# Altium footprint library ertc_footprints.PcbLib: 14 footprints
Each footprint in its own frame and in the unit in brackets; x right, y up, seen from the top. Pads: shape width x height; smd on the part's side, far side on the other; paste and mask are expansions set on the pad; w line width, h text height; cw(c..) or ccw(c..) is an arc to the next point about the centre after c.
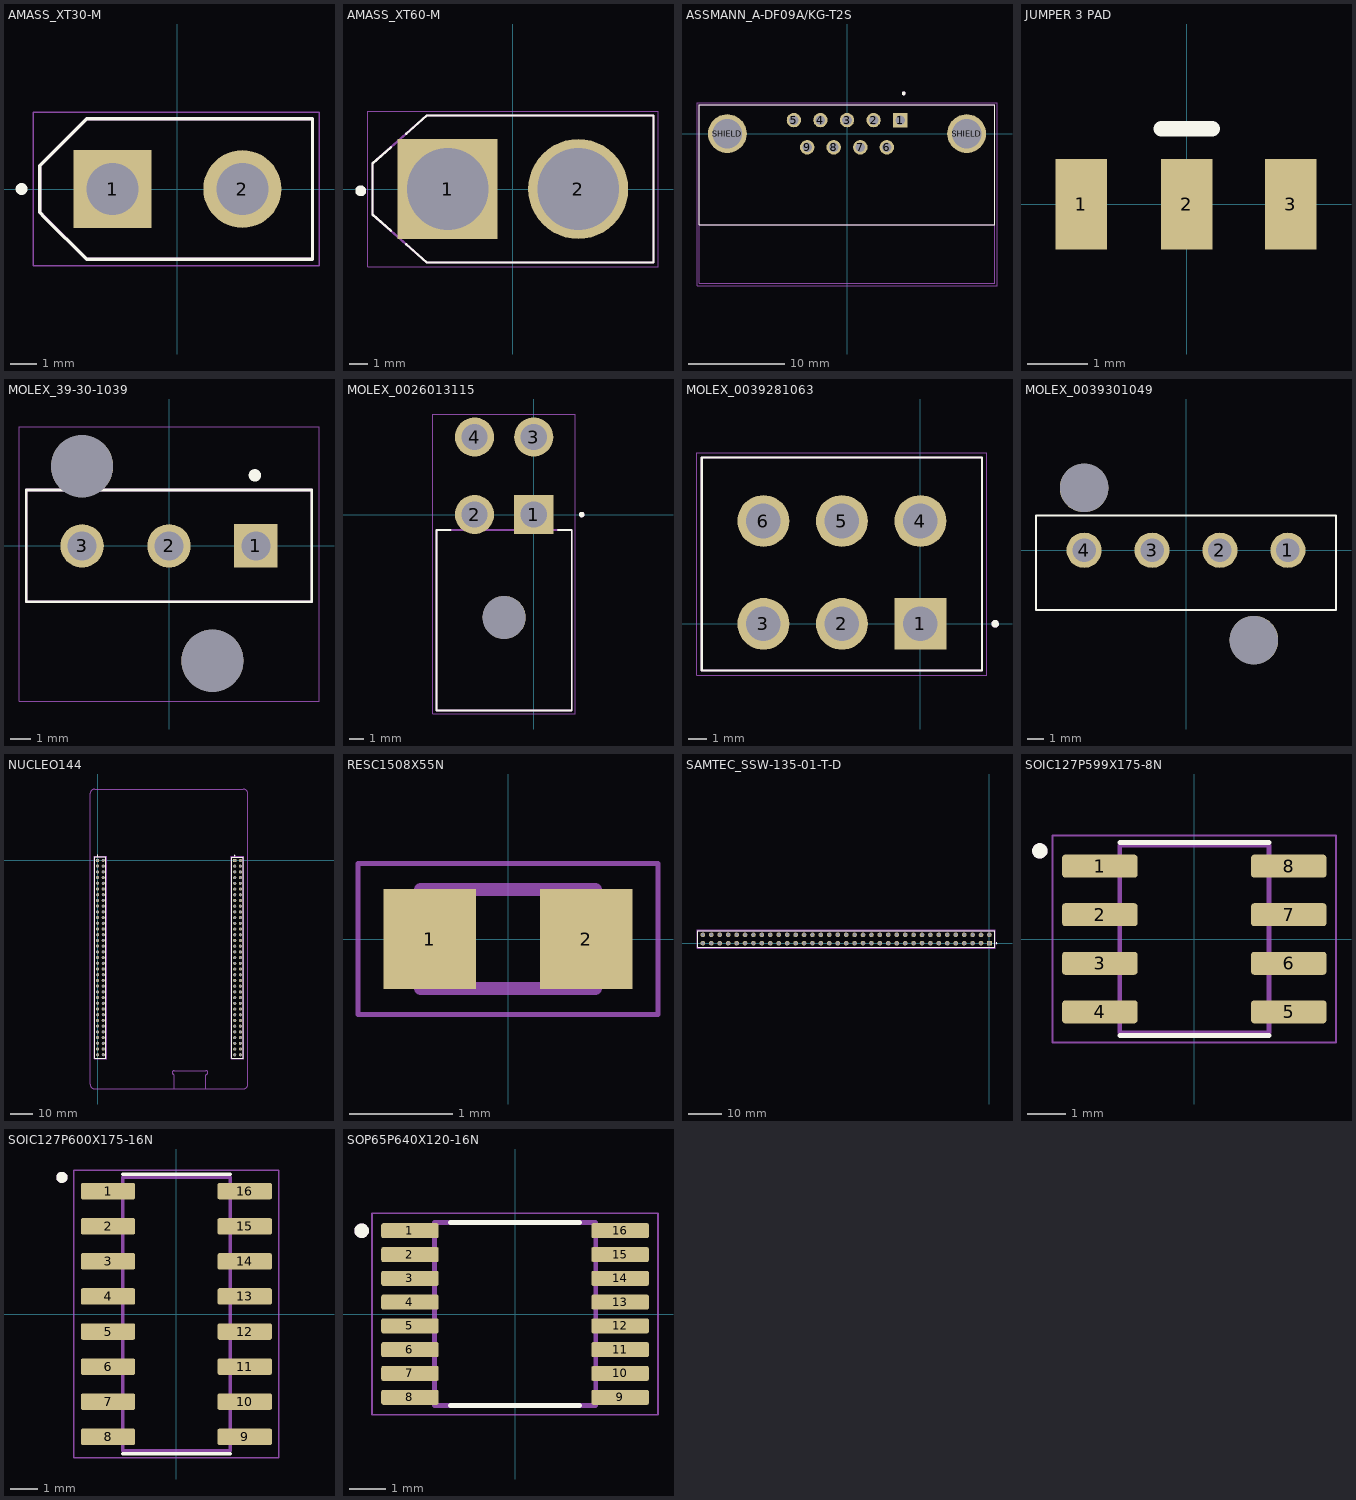
[diagram p0: the footprints below, top view; thin cyan lines are the x and y axes]

## AMASS_XT30-M [mm]
pads (2):
  rect 3x3 hole 2: 1(-2.5,0)
  round 3 hole 2: 2(2.5,0)
Top Overlay:
  circle w0.254: c-6,0 r0.1
  lines w0.127: -5.3,-0.9 -5.3,0.9 -3.5,2.7 5.2,2.7 5.2,-2.7 -3.5,-2.7 -5.1,-1.1 -5.3,-0.9
Mechanical 13:
  lines w0.127: -5.3,-0.9 -5.3,0.9 -3.5,2.7 5.2,2.7 5.2,-2.7 -3.5,-2.7 -5.3,-0.9
Mechanical 15:
  lines w0.05: -5.55,-2.95 -5.55,2.95 5.45,2.95 5.45,-2.95 -5.55,-2.95

## AMASS_XT60-M [mm]
pads (2):
  rect 5.516x5.516 hole 4.5: 1(-3.6,0)
  round 5.516 hole 4.5: 2(3.6,0)
Top Overlay:
  circle w0.3: c-8.4,-0.1 r0.15
  lines w0.127: -6.73,-2.3 -7.75,-1.4 -7.75,1.4 -6.73,2.3 ; -5.88,-3.05 -4.75,-4.05 7.75,-4.05 7.75,4.05 -4.75,4.05 -5.88,3.05
Mechanical 13:
  lines w0.127: -7.75,-1.4 -4.75,-4.05 7.75,-4.05 7.75,4.05 -4.75,4.05 -7.75,1.4 -7.75,-1.4
Mechanical 15:
  lines w0.05: -8,-4.3 8,-4.3 8,4.3 -8,4.3 -8,-4.3

## ASSMANN_A-DF09A/KG-T2S [mm]
pads (11):
  rect 1.508x1.508 hole 1: 1(5.54,1.42)
  round 1.508 hole 1: 2(2.77,1.42) 3(0,1.42) 4(-2.77,1.42) 5(-5.54,1.42) 6(4.155,-1.42) 7(1.385,-1.42) 8(-1.385,-1.42) 9(-4.155,-1.42)
  round 4.066 hole 3.05: SHIELD(-12.495,0) SHIELD(12.495,0)
Top Overlay:
  circle w0.2: c5.92,4.2 r0.1
  lines w0.127: -15.405,-9.5 15.405,-9.5 15.405,3 -15.405,3 -15.405,-9.5
Mechanical 13:
  circle w0.2: c5.92,4.2 r0.1
  lines w0.127: -15.405,-9.5 15.405,-9.5 ; -15.405,-15.6 15.405,-15.6 15.405,3 -15.405,3 -15.405,-15.6
Mechanical 15:
  lines w0.05: -15.655,-15.85 15.655,-15.85 15.655,3.25 -15.655,3.25 -15.655,-15.85
3D body "step_temp.STEP": height 12.55, standoff -4.33, extent -15.405,-15.32 15.405,2.98

## JUMPER 3 PAD [mm]
pads (3):
  rect 0.85x1.5 smd: 1(-1.75,0) 2(0,0) 3(1.725,0)
Top Overlay:
  lines w0.254: -0.425,1.25 0.425,1.25

## MOLEX_39-30-1039 [mm]
pads (5):
  rect 2.1x2.1 hole 1.4: 1(4.2,0)
  round 2.1 hole 1.4: 2(0,0) 3(-4.2,0)
  round 3 hole 3 unplated: ""(-4.2,3.85) ""(2.1,-5.55)
Top Overlay:
  circle w0.3: c4.15,3.41 r0.15
  lines w0.127: -6.9,-2.7 6.9,-2.7 6.9,2.7 -6.9,2.7 -6.9,-2.7
Mechanical 13:
  lines w0.127: -6.9,-2.7 6.9,-2.7 6.9,2.7 -6.9,2.7 -6.9,-2.7
Mechanical 15:
  lines w0.05: -7.25,-7.5 7.25,-7.5 7.25,5.75 -7.25,5.75 -7.25,-7.5
3D body "39-30-1039.stp": height 12.45, standoff -3.5, extent -6.9,-6.631 6.9,4.928

## MOLEX_0026013115 [mm]
pads (5):
  rect 2.775x2.775 hole 1.85: 1(0,0)
  round 2.775 hole 1.85: 2(-4.2,0) 3(0,5.5) 4(-4.2,5.5)
  round 3.05 hole 3.05 unplated: ""(-2.1,-7.3)
Top Overlay:
  circle w0.2: c3.4,0 r0.1
  lines w0.127: -5.91,-1.1 -6.9,-1.1 -6.9,-13.9 2.7,-13.9 2.7,-1.1 1.71,-1.1
Mechanical 13:
  circle w0.2: c3.4,0 r0.1
  lines w0.127: -6.9,-13.9 -6.9,-1.1 2.7,-1.1 2.7,-13.9 -6.9,-13.9
Mechanical 15:
  lines w0.05: -7.15,-14.15 -7.15,7.14 2.95,7.14 2.95,-14.15 -7.15,-14.15
3D body "0026013115--3DModel-STEP-56544.STEP": height 11.4, standoff -4.36, extent -7.108,-13.894 2.892,6.041

## MOLEX_0039281063 [mm]
pads (6):
  rect 2.775x2.775 hole 1.85: 1(0,0)
  round 2.775 hole 1.85: 2(-4.2,0) 3(-8.4,0) 4(0,5.5) 5(-4.2,5.5) 6(-8.4,5.5)
Top Overlay:
  lines w0.127: -11.7,-2.5 -11.7,8.9 3.3,8.9 3.3,-2.5 -11.7,-2.5
  lines w0.2: 4.089,0.045 ccw(c4,0) 4.1,0
Mechanical 13:
  circle w0.2: c4,0 r0.1
  lines w0.127: -11.7,-2.5 3.3,-2.5 3.3,8.9 -11.7,8.9 -11.7,-2.5
Mechanical 15:
  lines w0.05: -11.95,-2.75 -11.95,9.15 3.55,9.15 3.55,-2.75 -11.95,-2.75
3D body "39281063--3DModel-STEP-390490.STEP": height 12.8, standoff -3.5, extent -11.5,-2.3 3.1,8.7

## MOLEX_0039301049 [mm]
pads (6):
  round 2.175 hole 1.45: 1(6.3,0) 2(2.1,0) 3(-2.1,0) 4(-6.3,0)
  round 3 hole 3 unplated: ""(-6.3,3.85) ""(4.2,-5.55)
Top Overlay:
  lines w0.127: -9.271,-3.683 9.271,-3.683 9.271,2.159 -9.271,2.159 -9.271,-3.683
3D body "39-30-1049.stp": height 12.8, standoff -3.5, extent -9,-6.618 9,4.941

## NUCLEO144 [mm] "Female Headers on PCB, Male Headers on Nucleo"
pads (140):
  rect 1.39x1.39 / inner round 1.39 / far side rect 1.39x1.39 hole 1.04: 01(0,0) 01(60.96,-0.025)
  round 1.39 hole 1.04: 02(2.54,0) 02(63.5,-0.025) 03(0,-2.54) 03(60.96,-2.565) 04(2.54,-2.54) 04(63.5,-2.565) 05(0,-5.08) 05(60.96,-5.105) 06(2.54,-5.08) 06(63.5,-5.105) 07(0,-7.62) 07(60.96,-7.645) 08(2.54,-7.62) 08(63.5,-7.645) 09(0,-10.16) 09(60.96,-10.185) 10(2.54,-10.16) 10(63.5,-10.185) 11(0,-12.7) 11(60.96,-12.725) 12(2.54,-12.7) 12(63.5,-12.725) 13(0,-15.24) 13(60.96,-15.265) 14(2.54,-15.24) 14(63.5,-15.265) 15(0,-17.78) 15(60.96,-17.805) 16(2.54,-17.78) 16(63.5,-17.805) 17(0,-20.32) 17(60.96,-20.345) 18(2.54,-20.32) 18(63.5,-20.345) 19(0,-22.86) 19(60.96,-22.885) 20(2.54,-22.86) 20(63.5,-22.885) 21(0,-25.4) 21(60.96,-25.425) 22(2.54,-25.4) 22(63.5,-25.425) 23(0,-27.94) 23(60.96,-27.965) 24(2.54,-27.94) 24(63.5,-27.965) 25(0,-30.48) 25(60.96,-30.505) 26(2.54,-30.48) 26(63.5,-30.505) 27(0,-33.02) 27(60.96,-33.045) 28(2.54,-33.02) 28(63.5,-33.045) 29(0,-35.56) 29(60.96,-35.585) 30(2.54,-35.56) 30(63.5,-35.585) 31(0,-38.1) 31(60.96,-38.125) 32(2.54,-38.1) 32(63.5,-38.125) 33(0,-40.64) 33(60.96,-40.665) 34(2.54,-40.64) 34(63.5,-40.665) 35(0,-43.18) 35(60.96,-43.205) 36(2.54,-43.18) 36(63.5,-43.205) 37(0,-45.72) 37(60.96,-45.745) 38(2.54,-45.72) 38(63.5,-45.745) 39(0,-48.26) 39(60.96,-48.285) 40(2.54,-48.26) 40(63.5,-48.285) 41(0,-50.8) 41(60.96,-50.825) 42(2.54,-50.8) 42(63.5,-50.825) 43(0,-53.34) 43(60.96,-53.365) 44(2.54,-53.34) 44(63.5,-53.365) 45(0,-55.88) 45(60.96,-55.905) 46(2.54,-55.88) 46(63.5,-55.905) 47(0,-58.42) 47(60.96,-58.445) 48(2.54,-58.42) 48(63.5,-58.445) 49(0,-60.96) 49(60.96,-60.985) 50(2.54,-60.96) 50(63.5,-60.985) 51(0,-63.5) 51(60.96,-63.525) 52(2.54,-63.5) 52(63.5,-63.525) 53(0,-66.04) 53(60.96,-66.065) 54(2.54,-66.04) 54(63.5,-66.065) 55(0,-68.58) 55(60.96,-68.605) 56(2.54,-68.58) 56(63.5,-68.605) 57(0,-71.12) 57(60.96,-71.145) 58(2.54,-71.12) 58(63.5,-71.145) 59(0,-73.66) 59(60.96,-73.685) 60(2.54,-73.66) 60(63.5,-73.685) 61(0,-76.2) 61(60.96,-76.225) 62(2.54,-76.2) 62(63.5,-76.225) 63(0,-78.74) 63(60.96,-78.765) 64(2.54,-78.74) 64(63.5,-78.765) 65(0,-81.28) 65(60.96,-81.305) 66(2.54,-81.28) 66(63.5,-81.305) 67(0,-83.82) 67(60.96,-83.845) 68(2.54,-83.82) 68(63.5,-83.845) 69(0,-86.36) 69(60.96,-86.385) 70(2.54,-86.36) 70(63.5,-86.385)
Top Overlay:
  circle w0.2: c0,2.175 r0.1
  circle w0.2: c60.96,2.15 r0.1
  lines w0.2: -1.206,-87.885 -1.206,1.525 3.746,1.525 3.746,-87.885 -1.206,-87.885 ; 59.753,-87.91 59.753,1.5 64.706,1.5 64.706,-87.91 59.753,-87.91
Mechanical 1:
  lines w0.1: 48.123,-95.199 ccw(c48.123,-95.199) 48.123,-95.199 ; 48.123,-95.199 ccw(c48.123,-94.299) 49.023,-94.299 ; 48.123,-95.199 48.123,-101.599 64.754,-101.599 ; 49.023,-94.299 ccw(c48.123,-94.299) 48.123,-93.399 34.123,-93.399 ccw(c34.123,-94.299) 33.223,-94.299 ccw(c34.123,-94.299) 34.123,-95.199 34.123,-101.599 -1.246,-101.599 cw(c-1.246,-99.599) -3.246,-99.599 -3.246,29.741 cw(c-1.246,29.741) -1.246,31.741 64.754,31.741 cw(c64.754,29.741) 66.754,29.741 66.754,-99.599 cw(c64.754,-99.599) 64.754,-101.599 ; 49.023,-94.299 49.023,-94.299 ; 64.754,-101.599 64.754,-101.599
  lines w0.254: -1.246,-101.599 64.754,-101.599 ; -1.246,31.741 64.754,31.741
Mechanical 13:
  circle w0.2: c0,2.175 r0.1
  circle w0.2: c60.96,2.15 r0.1
  lines w0.1: -1.206,-87.885 3.746,-87.885 ; -1.206,-87.885 -1.206,1.525 ; -1.206,-87.885 3.746,-87.885 ; -1.206,1.525 3.746,1.525 ; -1.206,1.525 3.746,1.525 ; 3.746,-87.885 3.746,1.525 ; 3.746,-87.885 3.746,1.525 ; 59.753,-87.91 64.706,-87.91 ; 59.753,-87.91 59.753,1.5 ; 59.753,-87.91 64.706,-87.91 ; 59.753,1.5 64.706,1.5 ; 59.753,1.5 64.706,1.5 ; 64.706,-87.91 64.706,1.5 ; 64.706,-87.91 64.706,1.5
Mechanical 15:
  lines w0.05: -1.456,-88.135 -1.456,1.775 3.996,1.775 3.996,-88.135 -1.456,-88.135 ; 59.504,-88.16 59.504,1.75 64.956,1.75 64.956,-88.16 59.504,-88.16
3D body "NucleoBoardwithHeaders.step": height 21.18, standoff -2.63, extent -3.246,-105.699 66.754,32.859

## RESC1508X55N [mm]
pads (2):
  rect 0.9x0.97 smd: 1(-0.76,0) 2(0.76,0)
Mechanical 13:
  lines w0.127: -0.85,-0.48 -0.85,0.48 0.85,0.48 0.85,-0.48 -0.85,-0.48
Mechanical 15:
  lines w0.05: -1.46,-0.735 -1.46,0.735 1.46,0.735 1.46,-0.735 -1.46,-0.735
3D body "RMCF0603FT60R4.STEP": height 0.55, standoff 0, extent -0.775,-0.4 0.775,0.4

## SAMTEC_SSW-135-01-T-D [mm]
pads (70):
  rect 1.39x1.39 hole 1.04: 01(0,0)
  round 1.39 hole 1.04: 02(0,2.54) 03(-2.54,0) 04(-2.54,2.54) 05(-5.08,0) 06(-5.08,2.54) 07(-7.62,0) 08(-7.62,2.54) 09(-10.16,0) 10(-10.16,2.54) 11(-12.7,0) 12(-12.7,2.54) 13(-15.24,0) 14(-15.24,2.54) 15(-17.78,0) 16(-17.78,2.54) 17(-20.32,0) 18(-20.32,2.54) 19(-22.86,0) 20(-22.86,2.54) 21(-25.4,0) 22(-25.4,2.54) 23(-27.94,0) 24(-27.94,2.54) 25(-30.48,0) 26(-30.48,2.54) 27(-33.02,0) 28(-33.02,2.54) 29(-35.56,0) 30(-35.56,2.54) 31(-38.1,0) 32(-38.1,2.54) 33(-40.64,0) 34(-40.64,2.54) 35(-43.18,0) 36(-43.18,2.54) 37(-45.72,0) 38(-45.72,2.54) 39(-48.26,0) 40(-48.26,2.54) 41(-50.8,0) 42(-50.8,2.54) 43(-53.34,0) 44(-53.34,2.54) 45(-55.88,0) 46(-55.88,2.54) 47(-58.42,0) 48(-58.42,2.54) 49(-60.96,0) 50(-60.96,2.54) 51(-63.5,0) 52(-63.5,2.54) 53(-66.04,0) 54(-66.04,2.54) 55(-68.58,0) 56(-68.58,2.54) 57(-71.12,0) 58(-71.12,2.54) 59(-73.66,0) 60(-73.66,2.54) 61(-76.2,0) 62(-76.2,2.54) 63(-78.74,0) 64(-78.74,2.54) 65(-81.28,0) 66(-81.28,2.54) 67(-83.82,0) 68(-83.82,2.54) 69(-86.36,0) 70(-86.36,2.54)
Top Overlay:
  circle w0.2: c2.175,0 r0.1
  lines w0.2: -87.885,-1.206 -87.885,3.746 1.525,3.746 1.525,-1.206 -87.885,-1.206
Mechanical 13:
  circle w0.2: c2.175,0 r0.1
  lines w0.1: -87.885,-1.206 -87.885,3.746 ; -87.885,-1.206 1.525,-1.206 ; -87.885,-1.206 -87.885,3.746 ; -87.885,3.746 1.525,3.746 ; -87.885,3.746 1.525,3.746 ; 1.525,-1.206 1.525,3.746 ; 1.525,-1.206 1.525,3.746
Mechanical 15:
  lines w0.05: -88.135,-1.456 -88.135,3.996 1.775,3.996 1.775,-1.456 -88.135,-1.456
3D body "SSW-135-01-T-D.stp": height 2.64, standoff -8.51, extent -87.884,-1.206 1.524,3.746

## SOIC127P599X175-8N [mm]
pads (8):
  rrect25% 1.97x0.6 smd: 1(-2.47,1.905) 2(-2.47,0.635) 3(-2.47,-0.635) 4(-2.47,-1.905) 5(2.47,-1.905) 6(2.47,-0.635) 7(2.47,0.635) 8(2.47,1.905)
Top Overlay:
  circle w0.2: c-4.04,2.305 r0.1
  lines w0.127: -1.95,-2.525 1.95,-2.525 ; -1.95,2.525 1.95,2.525
Mechanical 13:
  circle w0.2: c-4.04,2.305 r0.1
  lines w0.127: -1.95,-2.452 -1.95,2.452 1.95,2.452 1.95,-2.452 -1.95,-2.452
Mechanical 15:
  lines w0.05: -3.705,-2.702 -3.705,2.702 3.705,2.702 3.705,-2.702 -3.705,-2.702
3D body "SN65HVD230DR.STEP": height 1.75, standoff 0, extent -3,-2.45 3,2.45

## SOIC127P600X175-16N [mm]
pads (16):
  rrect25% 1.97x0.6 smd: 1(-2.475,4.445) 2(-2.475,3.175) 3(-2.475,1.905) 4(-2.475,0.635) 5(-2.475,-0.635) 6(-2.475,-1.905) 7(-2.475,-3.175) 8(-2.475,-4.445) 9(2.475,-4.445) 10(2.475,-3.175) 11(2.475,-1.905) 12(2.475,-0.635) 13(2.475,0.635) 14(2.475,1.905) 15(2.475,3.175) 16(2.475,4.445)
Top Overlay:
  circle w0.2: c-4.145,4.945 r0.1
  lines w0.127: -1.95,-5.065 1.95,-5.065 ; -1.95,5.065 1.95,5.065
Mechanical 13:
  circle w0.2: c-4.145,4.945 r0.1
  lines w0.127: -1.95,-4.95 -1.95,4.95 1.95,4.95 1.95,-4.95 -1.95,-4.95
Mechanical 15:
  lines w0.05: -3.71,-5.2 -3.71,5.2 3.71,5.2 3.71,-5.2 -3.71,-5.2
3D body "step_temp.STEP": height 1.75, standoff 0, extent -3,-4.95 3,4.95

## SOP65P640X120-16N [mm]
pads (16):
  rrect25% 1.57x0.41 smd: 1(-2.87,2.275) 2(-2.87,1.625) 3(-2.87,0.975) 4(-2.87,0.325) 5(-2.87,-0.325) 6(-2.87,-0.975) 7(-2.87,-1.625) 8(-2.87,-2.275) 9(2.87,-2.275) 10(2.87,-1.625) 11(2.87,-0.975) 12(2.87,-0.325) 13(2.87,0.325) 14(2.87,0.975) 15(2.87,1.625) 16(2.87,2.275)
Top Overlay:
  circle w0.2: c-4.19,2.275 r0.1
  lines w0.127: -1.765,-2.5 1.765,-2.5 ; -1.765,2.5 1.765,2.5
Mechanical 13:
  circle w0.2: c-4.19,2.275 r0.1
  lines w0.127: -2.2,-2.5 -2.2,2.5 2.2,2.5 2.2,-2.5 -2.2,-2.5
Mechanical 15:
  lines w0.05: -3.905,-2.75 -3.905,2.75 3.905,2.75 3.905,-2.75 -3.905,-2.75
3D body "MAX3221EIPWR.STEP": height 1.2, standoff 0, extent -3.2,-2.5 3.2,2.5